# Altium footprint library KeyBoard.PcbLib: 1 footprints
Each footprint in its own frame and in the unit in brackets; x right, y up, seen from the top. Pads: shape width x height; smd on the part's side, far side on the other; paste and mask are expansions set on the pad; w line width, h text height; cw(c..) or ccw(c..) is an arc to the next point about the centre after c.
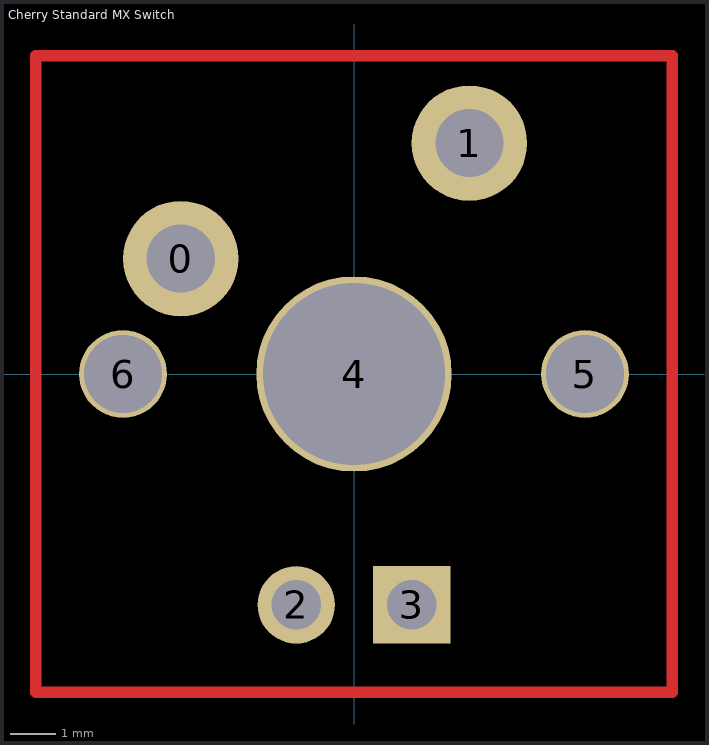
[diagram p0: the footprint, top view; thin cyan lines are the x and y axes]

## Cherry Standard MX Switch [mm]
pads (7):
  round 2.54 hole 1.5: 0(-3.81,2.54) 1(2.54,5.08)
  round 1.702 hole 1.092: 2(-1.27,-5.08)
  rect 1.702x1.702 hole 1.092: 3(1.27,-5.08)
  round 4.3 hole 4: 4(0,0)
  round 1.93 hole 1.712 unplated: 5(5.08,0)
  round 1.93 hole 1.712: 6(-5.08,0)
Top Layer:
  lines w0.254: -7,-7 7,-7 7,7 -7,7 -7,-7